# Altium schematic symbol library RECEIVER,FIBER OPTIC,450-1050NM,IF-D91B.Schlib: 1 symbol
Pins are listed as number, name and electrical type; pins without a type are passive.

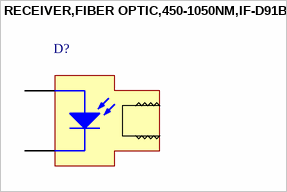
[diagram p0: symbol RECEIVER,FIBER OPTIC,450-1050NM,IF-D91B]

## RECEIVER,FIBER OPTIC,450-1050NM,IF-D91B
designator D?
pins: 1 A, 2 K